# Altium footprint library Miner_8TH.PcbLib: 39 footprints (part 2 of 3)
Each footprint in its own frame and in the unit in brackets; x right, y up, seen from the top. Pads: shape width x height; smd on the part's side, far side on the other; paste and mask are expansions set on the pad; w line width, h text height; cw(c..) or ccw(c..) is an arc to the next point about the centre after c.
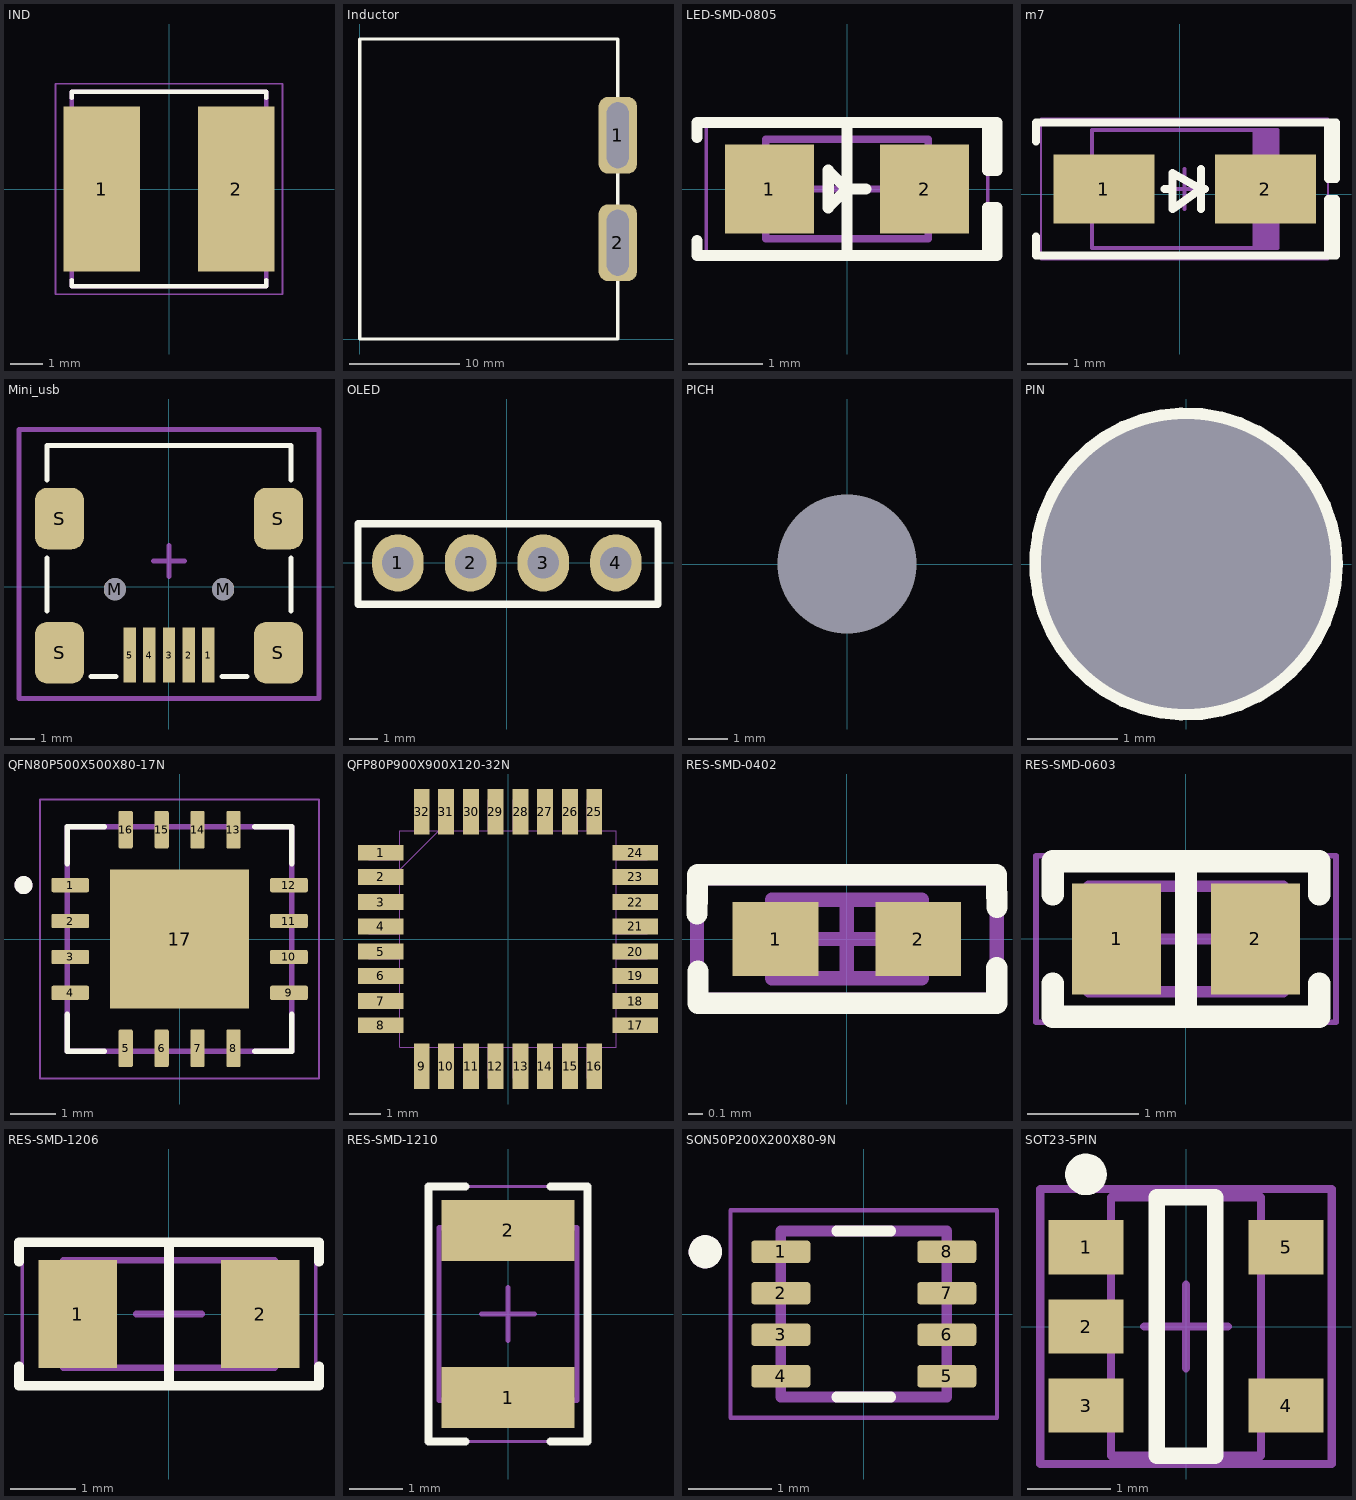
[diagram p1: the footprints below, top view; thin cyan lines are the x and y axes]

## IND [mm]
pads (2):
  rect 2.35x5.1 smd: 1(-2.075,0) 2(2.075,0)
Top Overlay:
  lines w0.127: -3,-2.8 -3,-3 3,-3 3,-2.8 ; -3,2.8 -3,3 3,3 3,2.8
Mechanical 13:
  lines w0.127: -3,-3 -3,3 3,3 3,-3 -3,-3
Mechanical 15:
  lines w0.05: -3.5,-3.25 -3.5,3.25 3.5,3.25 3.5,-3.25 -3.5,-3.25
3D body "User Library-SRN6045 Series.step": height 4.5, standoff 0, extent -3.15,-3 3.15,3

## Inductor [mm]
pads (2):
  rrect50% 3.5x7 hole 6 slot 2 at 0 deg mask+1: 1(23.495,18.542) 2(23.495,8.763)
Top Overlay:
  lines w0.3: 0,0 23.495,0 23.495,27.27 23.495,27.305 0,27.305 0,0

## LED-SMD-0805 [mm]
pads (2):
  rect 1.2x1.2 smd: 1(-1.05,0) 2(1.05,0)
Top Overlay:
  lines w0.15: -2.032,-0.7 -2.032,-0.9 1.905,-0.9 ; -2.032,0.7 -2.032,0.9 1.905,0.9 ; 0,-0.9 0,0.9 ; 0.254,0 0,0 ; 0,0 -0.254,-0.254 -0.254,0.254 0,0 ; 1.905,-0.9 1.905,-0.254 2.032,-0.254 2.032,-0.9 1.905,-0.9 ; 1.905,0.9 1.905,0.254 2.032,0.254 2.032,0.9 1.905,0.9
Mechanical 13:
  lines w0.1: -1.1,-0.675 1.1,-0.675 1.1,0.675 -1.1,0.675 -1.1,-0.675
Mechanical 15:
  lines w0.05: -1.905,-0.95 1.905,-0.95 1.905,0.95 -1.905,0.95 -1.905,-0.95
  lines w0.1: -0.5,0 0.5,0 ; 0,-0.5 0,0.5
3D body "LED 0805 Base RED.STEP": height 0.4, standoff 0, extent -1,-0.625 1,0.625
3D body "LED 0805 Lens RED.STEP": height 0.9, standoff 0.3, extent -0.65,-0.625 0.65,0.625

## m7 [mm]
pads (2):
  rect 2.5x1.7 smd: 1(-1.873,0.127) 2(2.127,0.127)
Top Overlay:
  lines w0.2: -3.556,-1.048 -3.556,-1.524 3.877,-1.524 3.877,-0.127 3.683,-0.127 3.683,-1.524 ; -3.556,1.302 -3.556,1.778 3.877,1.778 3.877,0.381 3.683,0.381 3.683,1.778 ; -0.373,0.127 -0.173,0.127 ; 0.527,-0.373 0.527,0.627 ; 0.627,0.127 0.527,0.127 ; 0.527,0.127 -0.173,-0.373 -0.173,0.527 0.527,0.127
Mechanical 13:
  rectangle: 1.808,-1.333 2.427,1.587
  lines w0.1: -2.173,-1.333 2.427,-1.333 2.427,1.587 -2.173,1.587 -2.173,-1.333
Mechanical 15:
  lines w0.05: -3.429,-1.623 3.683,-1.623 3.683,1.877 -3.429,1.877 -3.429,-1.623
  lines w0.1: -0.373,0.127 0.627,0.127 ; 0.127,-0.373 0.127,0.627
3D body "SMA.STEP": height 2.4, standoff 0, extent -2.473,-1.248 2.727,1.502

## Mini_usb [mm]
pads (11):
  rect 0.5x2.25 smd: 1(1.6,-2.772) 2(0.8,-2.772) 3(0,-2.772) 4(-0.8,-2.772) 5(-1.6,-2.772)
  round 0.9 hole 0.9 unplated: M(-2.2,-0.097) M(2.2,-0.097)
  rrect50% 2x2.5 smd: S(-4.45,-2.677) S(-4.45,2.773) S(4.45,-2.677) S(4.45,2.773)
Top Overlay:
  lines w0.2: -4.953,-0.986 -4.953,1.173 ; -4.953,4.348 -4.953,5.745 4.953,5.745 4.953,4.348 ; -3.175,-3.653 -2.159,-3.653 ; 2.159,-3.653 3.175,-3.653 ; 4.953,-0.986 4.953,1.173
Mechanical 15:
  lines w0.2: -0.635,1.054 0.635,1.054 ; 0,0.419 0,1.689 ; -6.096,-4.534 -6.096,6.388 6.096,6.388 6.096,-4.534 -6.096,-4.534
3D body "FCI USB 10033526-N3212LF.STEP": height 4.01, standoff -0.99, extent -4.95,-3.648 4.95,5.753

## OLED [mm]
pads (4):
  oval 1.8x2 hole 1.1: 1(-3.81,0) 2(-1.27,0) 3(1.27,0) 4(3.81,0)
Top Overlay:
  lines w0.254: -5.207,-1.448 -5.207,1.372 5.283,1.372 5.283,-1.448 -5.207,-1.448

## PICH [mm]
pads (1):
  round 0 / inner round 7 / far side round 7 hole 3.5: 0(0,0)
Bottom Overlay:
  circle w0.254: c0,0 r3.77

## PIN [mm]
pads (1):
  round 0 hole 3.2 mask+1: 0(0,0)
Top Overlay:
  circle w0.15: c0,0 r1.656

## QFN80P500X500X80-17N [mm]
pads (17):
  rrect25% 0.84x0.32 smd: 1(-2.435,1.2) 2(-2.435,0.4) 3(-2.435,-0.4) 4(-2.435,-1.2) 9(2.435,-1.2) 10(2.435,-0.4) 11(2.435,0.4) 12(2.435,1.2)
  rrect25% 0.32x0.84 smd: 5(-1.2,-2.435) 6(-0.4,-2.435) 7(0.4,-2.435) 8(1.2,-2.435) 13(1.2,2.435) 14(0.4,2.435) 15(-0.4,2.435) 16(-1.2,2.435)
  rect 3.1x3.1 smd paste-0.57: 17(0,0)
Top Overlay:
  circle w0.2: c-3.475,1.2 r0.1
  lines w0.127: -2.5,-1.68 -2.5,-2.5 -1.68,-2.5 ; -2.5,1.68 -2.5,2.5 -1.68,2.5 ; 1.68,-2.5 2.5,-2.5 2.5,-1.68 ; 1.68,2.5 2.5,2.5 2.5,1.68
Mechanical 13:
  circle w0.2: c-3.475,1.2 r0.1
  lines w0.127: -2.5,-2.5 -2.5,2.5 2.5,2.5 2.5,-2.5 -2.5,-2.5
Mechanical 15:
  lines w0.05: -3.105,-3.105 -3.105,3.105 3.105,3.105 3.105,-3.105 -3.105,-3.105

## QFP80P900X900X120-32N [mil]
pads (32):
  rect 58x20 smd: 1(-162,110) 2(-162,79) 3(-162,47) 4(-162,16) 5(-162,-16) 6(-162,-47) 7(-162,-79) 8(-162,-110) 17(162,-110) 18(162,-79) 19(162,-47) 20(162,-16) 21(162,16) 22(162,47) 23(162,79) 24(162,110)
  rect 20x58 smd: 9(-110,-162) 10(-79,-162) 11(-47,-162) 12(-16,-162) 13(16,-162) 14(47,-162) 15(79,-162) 16(110,-162) 25(110,162) 26(79,162) 27(47,162) 28(16,162) 29(-16,162) 30(-47,162) 31(-79,162) 32(-110,162)
Mechanical 13:
  drawing of 169 lines, arcs and shapes, not listed

## RES-SMD-0402 [mm]
pads (2):
  rect 0.6x0.52 smd: 1(-0.5,0) 2(0.5,0)
Top Overlay:
  lines w0.15: -1.05,0.175 -1.045,0.45 1.048,0.45 1.052,0.223 ; -1.043,-0.225 -1.043,-0.45 1.05,-0.45 1.05,-0.2
Mechanical 13:
  lines w0.1: -0.525,-0.275 0.525,-0.275 0.525,0.275 -0.525,0.275 -0.525,-0.275
Mechanical 15:
  lines w0.1: -0.275,0 0.275,0 ; 0,-0.275 0,0.275 ; -1.05,-0.425 1.05,-0.425 1.05,0.425 -1.05,0.425 -1.05,-0.425
3D body "0402 resistor.STEP": height 0.35, standoff 0, extent -0.525,-0.25 0.475,0.25

## RES-SMD-0603 [mm]
pads (2):
  rect 0.8x1 smd: 1(-0.625,0) 2(0.625,0)
Top Overlay:
  lines w0.2: -1.2,-0.4 -1.2,-0.7 1.2,-0.7 1.2,-0.4 ; -1.2,0.4 -1.2,0.7 1.2,0.7 1.2,0.4 ; 0,-0.7 0,0.7
Mechanical 13:
  lines w0.1: -0.875,-0.475 -0.875,0.475 0.875,0.475 0.875,-0.475 -0.875,-0.475
Mechanical 15:
  lines w0.05: -1.35,-0.75 -1.35,0.75 1.35,0.75 1.35,-0.75 -1.35,-0.75
  lines w0.1: -0.475,0 0.475,0 ; 0,-0.475 0,0.475
3D body "NTC 0603.STEP": height 0.82, standoff 0, extent -0.8,-0.412 0.8,0.412

## RES-SMD-1206 [mm]
pads (2):
  rect 1.2x1.65 smd: 1(-1.4,0) 2(1.4,0)
Top Overlay:
  lines w0.15: -2.3,-0.8 -2.3,-1.1 2.3,-1.1 2.3,-0.8 ; -2.3,0.8 -2.3,1.1 2.3,1.1 2.3,0.8 ; 0,-1.1 0,1.1
Mechanical 13:
  lines w0.1: -1.625,-0.825 1.625,-0.825 1.625,0.825 -1.625,0.825 -1.625,-0.825
Mechanical 15:
  lines w0.05: -2.25,-1.1 2.25,-1.1 2.25,1.1 -2.25,1.1 -2.25,-1.1
  lines w0.1: -0.5,0 0.5,0 ; 0,-0.5 0,0.5
3D body "1206 resistor.STEP": height 0.6, standoff 0, extent -1.575,-0.8 1.625,0.8

## RES-SMD-1210 [mm]
pads (2):
  rect 2.5x1.15 smd: 1(0,-1.575) 2(0,1.575)
Top Overlay:
  lines w0.15: -0.8,-2.4 -1.5,-2.4 -1.5,2.4 -0.8,2.4 ; 0.8,-2.4 1.5,-2.4 1.5,2.4 0.8,2.4
Mechanical 13:
  lines w0.1: -1.3,-1.625 1.3,-1.625 1.3,1.625 -1.3,1.625 -1.3,-1.625
Mechanical 15:
  lines w0.05: -1.5,-2.4 1.5,-2.4 1.5,2.4 -1.5,2.4 -1.5,-2.4
  lines w0.1: -0.5,0 0.5,0 ; 0,-0.5 0,0.5
3D body "RES - 1210.step": height 0.7, standoff 0, extent -1.25,-1.6 1.25,1.6

## SON50P200X200X80-9N [mm]
pads (8):
  rrect25% 0.71x0.27 smd: 1(-1,0.75) 2(-1,0.25) 3(-1,-0.25) 4(-1,-0.75) 5(1,-0.75) 6(1,-0.25) 7(1,0.25) 8(1,0.75)
Top Overlay:
  circle w0.2: c-1.91,0.75 r0.1
  lines w0.127: -0.325,-1 0.325,-1 ; -0.325,1 0.325,1
Mechanical 13:
  circle w0.2: c-1.91,0.75 r0.1
  lines w0.127: -1,-1 1,-1 1,1 -1,1 -1,-1
Mechanical 15:
  lines w0.05: -1.605,-1.25 1.605,-1.25 1.605,1.25 -1.605,1.25 -1.605,-1.25

## SOT23-5PIN [mm]
pads (5):
  rect 0.9x0.65 smd: 1(-1.2,0.95) 2(-1.2,0) 3(-1.2,-0.95) 4(1.2,-0.95) 5(1.2,0.95)
Top Overlay:
  circle w0.25: c-1.2,1.825 r0.125
  lines w0.2: -0.35,-1.55 -0.35,1.55 0.35,1.55 0.35,-1.55 -0.35,-1.55
Mechanical 13:
  lines w0.1: -0.9,-1.55 0.9,-1.55 0.9,1.55 -0.9,1.55 -0.9,-1.55
Mechanical 15:
  lines w0.1: -0.5,0 0.5,0 ; 0,-0.5 0,0.5 ; -1.75,-1.65 1.75,-1.65 1.75,1.65 -1.75,1.65 -1.75,-1.65
3D body: height 1.45, standoff 0, extent -0.9,-1.55 0.9,1.55